# EAGLE library part TCAN3403DDFRQ1 (library TCAN3403DDFRQ1)
CAN Interface IC Automotive 3.3V CAN flexible-data-rate (FD) transceiver with flexible I/O and standby mode 8-SOT-23-THIN -40 to 150 Source: Datasheet <https://www.ti.com/lit/ds/symlink/tcan3403-q1.pdf?ts=1727053527790&ref_url=https%3A%2F%2Fwww.mouser.cn%2F>
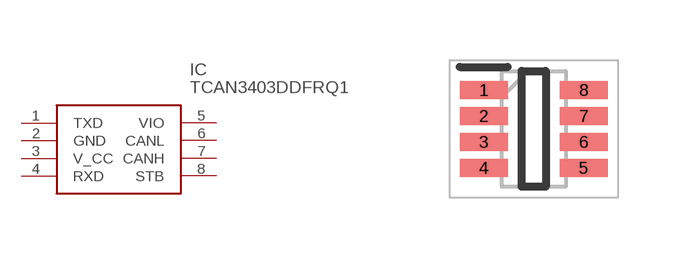
[diagram p0: symbol with the pads of SOT65P280X110-8N; footprint SOT65P280X110-8N]

Designator prefix IC

## TCAN3403DDFRQ1 (Description: CAN Interface IC Automotive 3.3V CAN flexible-data-rate (FD) transceiver with flexible I/O and standby mode 8-SOT-23-THIN -40 to 150; Height: 1.1mm; Manufacturer_Name: Texas Instruments; Manufacturer_Part_Number: TCAN3403DDFRQ1; Mouser_Part_Number: 595-TCAN3403DDFRQ1; Mouser_Price-Stock: https://www.mouser.co.uk/ProductDetail/Texas-Instruments/TCAN3403DDFRQ1?qs=VVKQmw408U%2FxEANrQHmLxg%3D%3D)  [SOT65P280X110-8N]
1  TXD
2  GND
3  V_CC
4  RXD
5  VIO
6  CANL
7  CANH
8  STB

## Footprint SOT65P280X110-8N (pad centres in mm)
DDF0008A_2024
smd 1.2 x 0.45: 1 -1.25,0.975; 2 -1.25,0.325; 3 -1.25,-0.325; 4 -1.25,-0.975; 5 1.25,-0.975; 6 1.25,-0.325; 7 1.25,0.325; 8 1.25,0.975